# EAGLE library part LTC485 (library JLB6_Processor)
RS485 TRANSEIVER
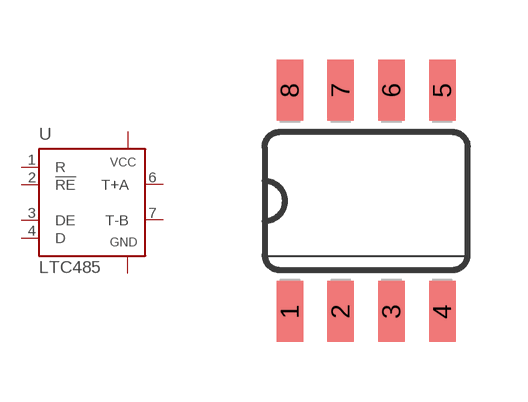
[diagram p3: symbol with the pads of SO08; footprint SO08]

Designator prefix U

## LTC485  [SO08]
1  R
2  !RE  in
3  DE  in
4  D
5  GND  pwr
6  T+A
7  T-B
8  VCC  pwr

## Footprint SO08 (pad centres in mm)
Small Outline Package
smd 0.66 x 1.524: 1 -1.905,-2.769; 2 -0.635,-2.769; 3 0.635,-2.769; 4 1.905,-2.769; 5 1.905,2.769; 6 0.635,2.769; 7 -0.635,2.769; 8 -1.905,2.769